# Altium footprint library RESC1005X40L.PcbLib: 1 footprints
Each footprint in its own frame and in the unit in brackets; x right, y up, seen from the top. Pads: shape width x height; smd on the part's side, far side on the other; paste and mask are expansions set on the pad; w line width, h text height; cw(c..) or ccw(c..) is an arc to the next point about the centre after c.
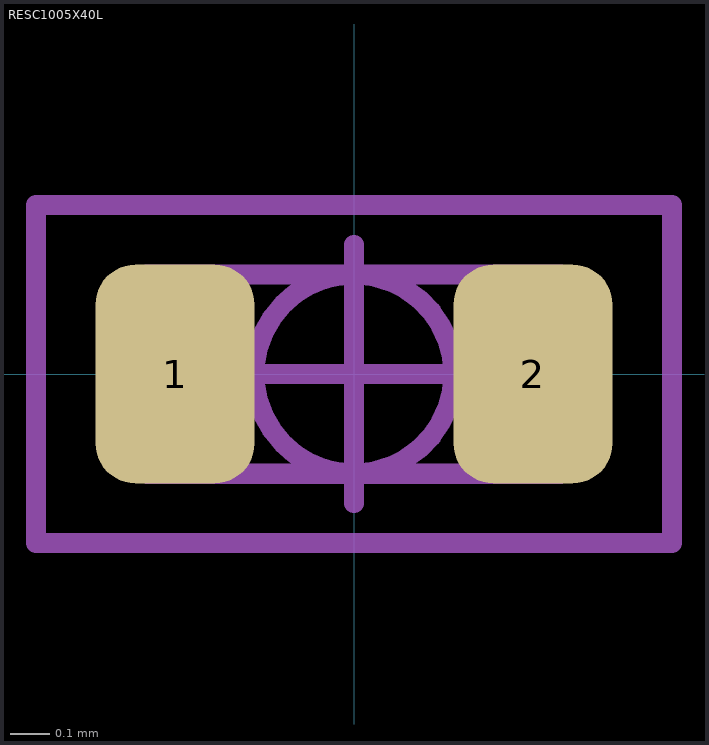
[diagram p0: the footprint, top view; thin cyan lines are the x and y axes]

## RESC1005X40L [mm] "RES 0402 (1005 metric) Least"
height 0.4
pads (2):
  rrect50% 0.4x0.55 smd mask+0.075: 1(-0.45,0) 2(0.45,0)
Mechanical 13:
  lines w0.001: -0.525,-0.275 -0.525,0.275 0.525,0.275 0.525,-0.275 -0.525,-0.275
  lines w0.05: -0.5,-0.25 -0.5,0.25 0.5,0.25 0.5,-0.25 -0.5,-0.25
Mechanical 15:
  circle w0.05: c0,0 r0.25
  lines w0.05: -0.325,0 0.325,0 ; 0,-0.325 0,0.325 ; -0.8,-0.425 -0.8,0.425 0.8,0.425 0.8,-0.425 -0.8,-0.425
3D body: height 0.4, standoff 0.05, extent -0.3,-0.284 0.3,0.275
3D body: height 0.4, standoff 0.05, extent -0.525,-0.279 -0.3,0.279
3D body: height 0.4, standoff 0.05, extent 0.3,-0.279 0.525,0.279